# Altium integrated library AD RF and IF Modulator Demodulator.IntLib: 9 symbols
Pins are listed as number, name and electrical type; pins without a type are passive.

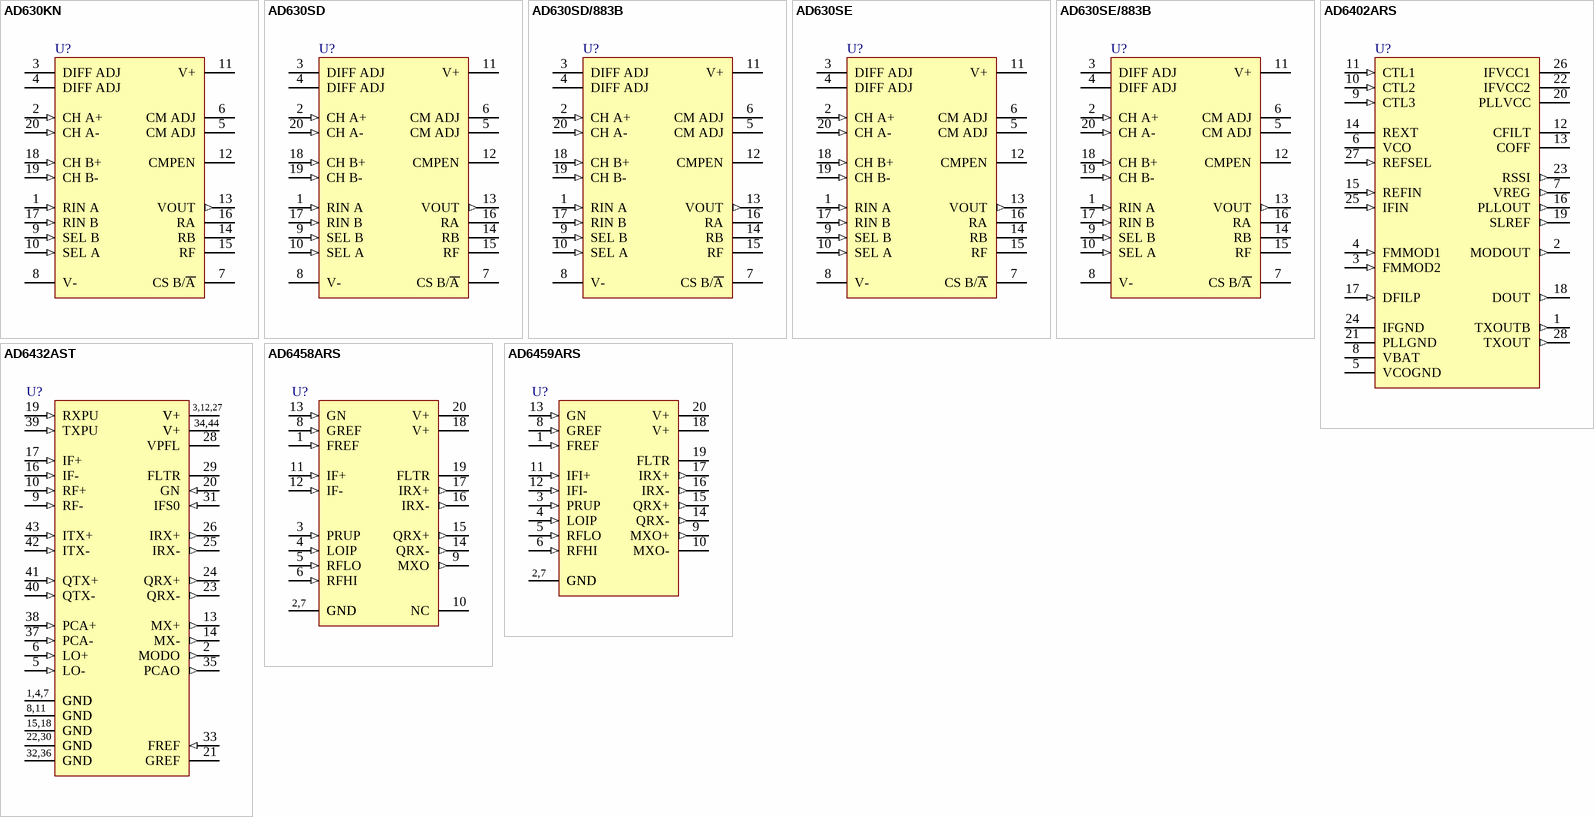
[diagram p0: symbols AD630KN to AD6459ARS]

## AD630KN
designator U?
Balanced Modulator/Demodulator; Published: 8-Jun-2000; LatestRevisionDate: 29-May-2009; LatestRevisionNote: Component Body Added.; DatasheetVersion: Rev.A 1998; PackageReference: N-20; Publisher: Altium Limited; PackageDescription: DIP, 20-Pin, Row Spacing 7.62 mm, Pitch 2.54 mm; Code_JEDEC: MS-001-AD; ComponentLink1Description: Manufacturer Link; ComponentLink1URL: http://www.analog.com/en/prod/0%2C2877%2CAD630%2C00.html; ComponentLink2Description: Datasheet; ComponentLink2URL: http://www.analog.com/UploadedFiles/Data_Sheets/106127811AD630_e.pdf
footprint N-20 (DIP, 20-Leads, Row Spacing 7.62mm, Pitch 2.54mm, Body 25.2x6.61mm)
3D model N-20 (DIP, 20-Pin, Row Spacing 7.62 mm, Pitch 2.54 mm)
simulation model AD630K (SUBCKT)
pins: 1 RIN A (in), 2 CH A+ (in), 3 DIFF ADJ, 4 DIFF ADJ, 5 CM ADJ, 6 CM ADJ, 7 CS B/~{A} (oc), 8 V- (power), 9 SEL B (in), 10 SEL A (in), 11 V+ (power), 12 CMPEN, 13 VOUT (out), 14 RB, 15 RF, 16 RA, 17 RIN B (in), 18 CH B+ (in), 19 CH B- (in), 20 CH A- (in)

## AD630SD
designator U?
Balanced Modulator/Demodulator; Published: 8-Jun-2000; LatestRevisionDate: 29-May-2009; LatestRevisionNote: Component Body Added.; DatasheetVersion: Rev.A 1998; PackageReference: D-20; Publisher: Altium Limited; PackageDescription: DIP, 20-Pin, Row Spacing 7.62 mm, Pitch 2.54 mm; Code_JEDEC: MS-015-AE; ComponentLink1Description: Manufacturer Link; ComponentLink1URL: http://www.analog.com/en/prod/0%2C2877%2CAD630%2C00.html; ComponentLink2Description: Datasheet; ComponentLink2URL: http://www.analog.com/UploadedFiles/Data_Sheets/106127811AD630_e.pdf
footprint D-20 (DIP, 20-Leads, Row Spacing 7.62mm, Pitch 2.54mm, Body 25.4x7.37mm)
3D model D-20 (DIP, 20-Pin, Row Spacing 7.62 mm, Pitch 2.54 mm)
simulation model AD630S (SUBCKT)
pins: 1 RIN A (in), 2 CH A+ (in), 3 DIFF ADJ, 4 DIFF ADJ, 5 CM ADJ, 6 CM ADJ, 7 CS B/~{A} (oc), 8 V- (power), 9 SEL B (in), 10 SEL A (in), 11 V+ (power), 12 CMPEN, 13 VOUT (out), 14 RB, 15 RF, 16 RA, 17 RIN B (in), 18 CH B+ (in), 19 CH B- (in), 20 CH A- (in)

## AD630SD/883B
designator U?
Balanced Modulator/Demodulator; Published: 8-Jun-2000; LatestRevisionDate: 29-May-2009; LatestRevisionNote: Component Body Added.; DatasheetVersion: Rev.A 1998; PackageReference: D-20; Publisher: Altium Limited; PackageDescription: DIP, 20-Pin, Row Spacing 7.62 mm, Pitch 2.54 mm; Code_JEDEC: MS-015-AE; ComponentLink1Description: Manufacturer Link; ComponentLink1URL: http://www.analog.com/en/prod/0%2C2877%2CAD630%2C00.html; ComponentLink2Description: Datasheet; ComponentLink2URL: http://www.analog.com/UploadedFiles/Data_Sheets/106127811AD630_e.pdf
footprint D-20 (DIP, 20-Leads, Row Spacing 7.62mm, Pitch 2.54mm, Body 25.4x7.37mm)
3D model D-20 (DIP, 20-Pin, Row Spacing 7.62 mm, Pitch 2.54 mm)
simulation model AD630S (SUBCKT)
pins: 1 RIN A (in), 2 CH A+ (in), 3 DIFF ADJ, 4 DIFF ADJ, 5 CM ADJ, 6 CM ADJ, 7 CS B/~{A} (oc), 8 V- (power), 9 SEL B (in), 10 SEL A (in), 11 V+ (power), 12 CMPEN, 13 VOUT (out), 14 RB, 15 RF, 16 RA, 17 RIN B (in), 18 CH B+ (in), 19 CH B- (in), 20 CH A- (in)

## AD630SE
designator U?
Balanced Modulator/Demodulator; Published: 8-Jun-2000; LatestRevisionDate: 29-May-2009; LatestRevisionNote: IPC-7351 Footprint Added.; DatasheetVersion: Rev.A 1998; PackageReference: E-20A; Publisher: Altium Limited; PackageDescription: 20-Pin Ceramic Leadless Chip Carrier 1.27 mm Pitch; ComponentLink1Description: Manufacturer Link; ComponentLink1URL: http://www.analog.com/en/prod/0%2C2877%2CAD630%2C00.html; ComponentLink2Description: Datasheet; ComponentLink2URL: http://www.analog.com/UploadedFiles/Data_Sheets/106127811AD630_e.pdf
footprint E-20A_N (Leadless Chip Carrier, 20-Leads, Body 8.9x8.9mm, Pitch 1.27mm, IPC Medium Density)
footprint E-20A_L (Leadless Chip Carrier, 20-Leads, Body 8.9x8.9mm, Pitch 1.27mm, IPC High Density)
footprint E-20A_M (Leadless Chip Carrier, 20-Leads, Body 8.9x8.9mm, Pitch 1.27mm, IPC Low Density)
simulation model AD630S (SUBCKT)
pins: 1 RIN A (in), 2 CH A+ (in), 3 DIFF ADJ, 4 DIFF ADJ, 5 CM ADJ, 6 CM ADJ, 7 CS B/~{A} (oc), 8 V- (power), 9 SEL B (in), 10 SEL A (in), 11 V+ (power), 12 CMPEN, 13 VOUT (out), 14 RB, 15 RF, 16 RA, 17 RIN B (in), 18 CH B+ (in), 19 CH B- (in), 20 CH A- (in)

## AD630SE/883B
designator U?
Balanced Modulator/Demodulator; Published: 8-Jun-2000; LatestRevisionDate: 29-May-2009; LatestRevisionNote: IPC-7351 Footprint Added.; DatasheetVersion: Rev.A 1998; PackageReference: E-20A; Publisher: Altium Limited; PackageDescription: 20-Pin Ceramic Leadless Chip Carrier 1.27 mm Pitch; ComponentLink1Description: Manufacturer Link; ComponentLink1URL: http://www.analog.com/en/prod/0%2C2877%2CAD630%2C00.html; ComponentLink2Description: Datasheet; ComponentLink2URL: http://www.analog.com/UploadedFiles/Data_Sheets/106127811AD630_e.pdf
footprint E-20A_N (Leadless Chip Carrier, 20-Leads, Body 8.9x8.9mm, Pitch 1.27mm, IPC Medium Density)
footprint E-20A_L (Leadless Chip Carrier, 20-Leads, Body 8.9x8.9mm, Pitch 1.27mm, IPC High Density)
footprint E-20A_M (Leadless Chip Carrier, 20-Leads, Body 8.9x8.9mm, Pitch 1.27mm, IPC Low Density)
simulation model AD630S (SUBCKT)
pins: 1 RIN A (in), 2 CH A+ (in), 3 DIFF ADJ, 4 DIFF ADJ, 5 CM ADJ, 6 CM ADJ, 7 CS B/~{A} (oc), 8 V- (power), 9 SEL B (in), 10 SEL A (in), 11 V+ (power), 12 CMPEN, 13 VOUT (out), 14 RB, 15 RF, 16 RA, 17 RIN B (in), 18 CH B+ (in), 19 CH B- (in), 20 CH A- (in)

## AD6402ARS
designator U?
IF Transceiver Subsystem; Published: 8-Jun-2000; LatestRevisionDate: 29-May-2009; LatestRevisionNote: IPC-7351 Footprint Added.; DatasheetVersion: Rev.0 1997; PackageVersion: revA, 1997; PackageReference: RS-28; Publisher: Altium Limited; PackageDescription: 28-Pin Small Outline Package 0.65 mm Pitch; ComponentLink1Description: Manufacturer Link; ComponentLink1URL: http://www.analog.com/
footprint RS-28_N (SOP, 28-Leads, Body 10.2x5.3mm, Pitch 0.65mm, IPC Medium Density)
footprint RS-28_L (SOP, 28-Leads, Body 10.2x5.3mm, Pitch 0.65mm, IPC High Density)
footprint RS-28_M (SOP, 28-Leads, Body 10.2x5.3mm, Pitch 0.65mm, IPC Low Density)
3D model RS-28 (28-Pin Small Outline Package 0.65 mm Pitch)
pins: 1 TXOUTB (out), 2 MODOUT (out), 3 FMMOD2 (in), 4 FMMOD1 (in), 5 VCOGND (power), 6 VCO, 7 VREG (out), 8 VBAT (power), 9 CTL3 (in), 10 CTL2 (in), 11 CTL1 (in), 12 CFILT, 13 COFF, 14 REXT, 15 REFIN (in), 16 PLLOUT (out), 17 DFILP (in), 18 DOUT (out), 19 SLREF (out), 20 PLLVCC (power), 21 PLLGND (power), 22 IFVCC2 (power), 23 RSSI (out), 24 IFGND (power), 25 IFIN (in), 26 IFVCC1 (power), 27 REFSEL (in), 28 TXOUT (out)

## AD6432AST
designator U?
GSM 3V Transceiver IF Subsystem; Published: 8-Jun-2000; LatestRevisionDate: 13-Apr-2006; LatestRevisionNote: IPC-7351 Footprint Added.; DatasheetVersion: Rev.0 1997; PackageVersion: 2001; PackageReference: ST-44; Publisher: Altium Limited; PackageDescription: 44-Pin Thin Quad Flat Pack 0.8 mm Pitch; ComponentLink1Description: Manufacturer Link; ComponentLink1URL: http://www.analog.com/
footprint ST-44_N (Thin QFP, 44-Leads, Body 10x10mm, Pitch 0.8mm, IPC Medium Density)
footprint ST-44_L (Thin QFP, 44-Leads, Body 10x10mm, Pitch 0.8mm, IPC High Density)
footprint ST-44_M (Thin QFP, 44-Leads, Body 10x10mm, Pitch 0.8mm, IPC Low Density)
3D model 6432-ST44 (44-Pin Thin Quad Flat Pack 0.8 mm Pitch)
pins: 1 GND (power), 2 MODO (out), 3 V+ (power), 4 GND (power), 5 LO- (in), 6 LO+ (in), 7 GND (power), 8 GND (power), 9 RF- (in), 10 RF+ (in), 11 GND (power), 12 V+ (power), 13 MX+ (out), 14 MX- (out), 15 GND (power), 16 IF- (in), 17 IF+ (in), 18 GND (power), 19 RXPU (in), 20 GN (in), 21 GREF, 22 GND (power), 23 QRX- (out), 24 QRX+ (out), 25 IRX- (out), 26 IRX+ (out), 27 V+ (power), 28 VPFL (power), 29 FLTR, 30 GND (power), 31 IFS0 (in), 32 GND (power), 33 FREF (in), 34 V+ (power), 35 PCAO (out), 36 GND (power), 37 PCA- (in), 38 PCA+ (in), 39 TXPU (in), 40 QTX- (in), 41 QTX+ (in), 42 ITX- (in), 43 ITX+ (in), 44 V+ (power)
text: 3,12,27; 34,44; 1,4,7; 8,11; 15,18; 22,30; 32,36

## AD6458ARS
designator U?
GSM 3V Receiver IF Subsystem; Note: Pin 10 is not connected and should be grounded; Published: 8-Jun-2000; LatestRevisionDate: 29-May-2009; LatestRevisionNote: IPC-7351 Footprint Added.; DatasheetVersion: Rev.0 1997; PackageVersion: rev0; PackageReference: RS-20; Publisher: Altium Limited; PackageDescription: 20-Pin Small Outline Package 0.65 mm Pitch; Code_JEDEC: MO-150-AE; Code_IPC: SOP65P780-20; ComponentLink1Description: Manufacturer Link; ComponentLink1URL: http://www.analog.com/
footprint RS-20_N (SOP, 20-Leads, Body 7.2x5.3mm, Pitch 0.65mm, IPC Medium Density)
footprint RS-20_L (SOP, 20-Leads, Body 7.2x5.3mm, Pitch 0.65mm, IPC High Density)
footprint RS-20_M (SOP, 20-Leads, Body 7.2x5.3mm, Pitch 0.65mm, IPC Low Density)
3D model RS-20 (20-Pin Small Outline Package 0.65 mm Pitch)
pins: 1 FREF (in), 2 GND (power), 3 PRUP (in), 4 LOIP (in), 5 RFLO (in), 6 RFHI (in), 7 GND (power), 8 GREF (in), 9 MXO (out), 10 NC, 11 IF+ (in), 12 IF- (in), 13 GN (in), 14 QRX- (out), 15 QRX+ (out), 16 IRX- (out), 17 IRX+ (out), 18 V+ (power), 19 FLTR, 20 V+ (power)
text: 2,7

## AD6459ARS
designator U?
GSM 3V Receiver IF Subsystem; Published: 8-Jun-2000; LatestRevisionDate: 29-May-2009; LatestRevisionNote: IPC-7351 Footprint Added.; DatasheetVersion: Rev.0 1996; PackageVersion: rev0; PackageReference: RS-20; Publisher: Altium Limited; PackageDescription: 20-Pin Small Outline Package 0.65 mm Pitch; Code_JEDEC: MO-150-AE; Code_IPC: SOP65P780-20; ComponentLink1Description: Manufacturer Link; ComponentLink1URL: http://www.analog.com/
footprint RS-20_N (SOP, 20-Leads, Body 7.2x5.3mm, Pitch 0.65mm, IPC Medium Density)
footprint RS-20_L (SOP, 20-Leads, Body 7.2x5.3mm, Pitch 0.65mm, IPC High Density)
footprint RS-20_M (SOP, 20-Leads, Body 7.2x5.3mm, Pitch 0.65mm, IPC Low Density)
3D model RS-20 (20-Pin Small Outline Package 0.65 mm Pitch)
pins: 1 FREF (in), 2 GND (power), 3 PRUP (in), 4 LOIP (in), 5 RFLO (in), 6 RFHI (in), 7 GND (power), 8 GREF (in), 9 MXO+ (out), 10 MXO-, 11 IFI+ (in), 12 IFI- (in), 13 GN (in), 14 QRX- (out), 15 QRX+ (out), 16 IRX- (out), 17 IRX+ (out), 18 V+ (power), 19 FLTR, 20 V+ (power)
text: 2,7